# EAGLE library part TTP229B (library ds_ic_peripherals)
16 KEYS OR 8 KEYS TOUCH PAD DETECTOR IC
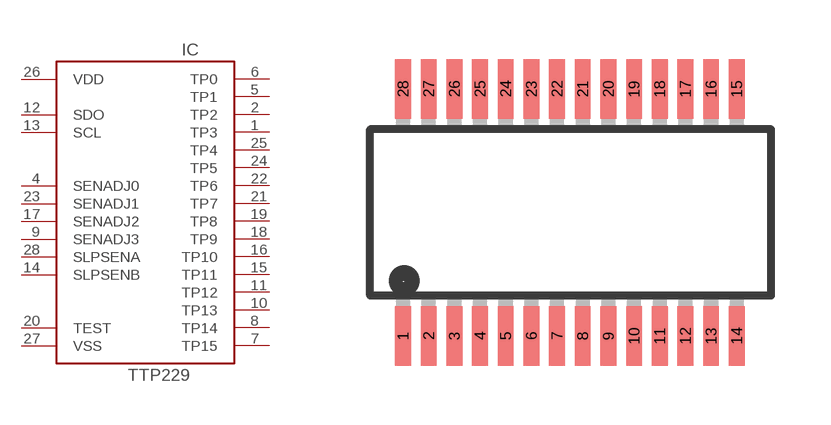
[diagram p30: symbol with the pads of TTP229; footprint TTP229]

Designator prefix IC

## TTP229B  [TTP229]
1  TP3
2  TP2
4  SENADJ0
5  TP1
6  TP0
7  TP15
8  TP14
9  SENADJ3
10  TP13
11  TP12
12  SDO
13  SCL
14  SLPSENB
15  TP11
16  TP10
17  SENADJ2
18  TP9
19  TP8
20  TEST
21  TP7
22  TP6
23  SENADJ1
24  TP5
25  TP4
26  VDD
27  VSS
28  SLPSENA

## Footprint TTP229 (pad centres in mm)
smd 0.4 x 1.5: 1 -4.225,-3.125; 2 -3.575,-3.125; 3 -2.925,-3.125; 4 -2.275,-3.125; 5 -1.625,-3.125; 6 -0.975,-3.125; 7 -0.325,-3.125; 8 0.325,-3.125; 9 0.975,-3.125; 10 1.625,-3.125; 11 2.275,-3.125; 12 2.925,-3.125; 13 3.575,-3.125; 14 4.225,-3.125; 15 4.225,3.125; 16 3.575,3.125; 17 2.925,3.125; 18 2.275,3.125; 19 1.625,3.125; 20 0.975,3.125; 21 0.325,3.125; 22 -0.325,3.125; 23 -0.975,3.125; 24 -1.625,3.125; 25 -2.275,3.125; 26 -2.925,3.125; 27 -3.575,3.125; 28 -4.225,3.125